# EAGLE library part CONN_08_2 (library HW2_Library)
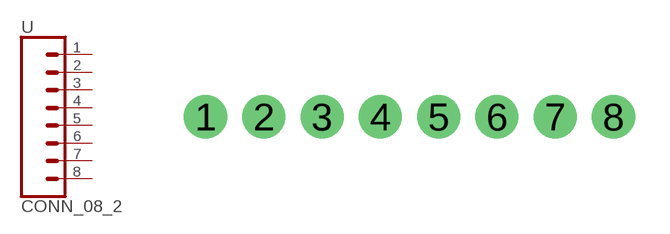
[diagram p1: symbol with the pads of CONN08; footprint CONN08]

Designator prefix -

## CONN_08_2  [CONN08]
1  1.B15  pas
2  2.B14  pas
3  3.B13  pas
4  4.B9  pas
5  5.B8  pas
6  6.B7  pas
7  7.5V  pas
8  8.GND  pas

## Footprint CONN08 (pad centres in mm)
Plated Through Hole -8 Pin Specifications: Pin count:8 Pin pitch:0.1" Example device(s): CONN_08
drill 1.016 pad 1.88: 1 0,0; 2 2.54,0; 3 5.08,0; 4 7.62,0; 5 10.16,0; 6 12.7,0; 7 15.24,0; 8 17.78,0